# EAGLE library part WSL (library Wannenstecker - 10Pol)
Name des Bauteiles: -->Wannenstecker 10 pol. Daten:10 pol --> Reichelt WSL10 Artikelnummer:#keine! Datenblatt:www.datasheet.com __________________________________________ generated by Eagle Description Tool am : 27.09.2013 07:41:09 erstellt von: Hm
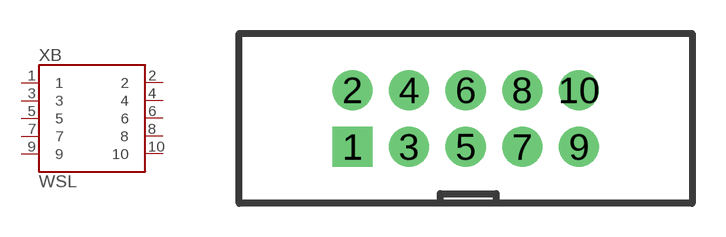
[diagram p0: symbol with the pads of WSL10; footprint WSL10]

Designator prefix XB

## WSL  [WSL10]
1  1
2  2
3  3
4  4
5  5
6  6
7  7
8  8
9  9
10  10

## Footprint WSL10 (pad centres in mm)
drill 1.2 square: 1 -5.08,-1.27
drill 1.2: 2 -5.08,1.27; 3 -2.54,-1.27; 4 -2.54,1.27; 5 0,-1.27; 6 0,1.27; 7 2.54,-1.27; 8 2.54,1.27; 9 5.08,-1.27; 10 5.08,1.27